# Altium schematic symbol library BAT24-02LS.SchLib: 1 symbol
Pins are listed as number, name and electrical type; pins without a type are passive.

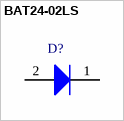
[diagram p0: symbol BAT24-02LS]

## BAT24-02LS
designator D?
Single Silicon Schottky Diode, 110 mA IF Max, TSSLP-2-1, Green; Manufacturer: Infineon; PartNumber: BAT24-02LS; CT (typ): 0.21 pF; Green: yes; Group: RF Mixer; IF (max): 110 mA; VF (typ): 0.23 V; VR (max): 4 V; DatasheetVersion: Jun-2011; PackageReference: TSSLP-2-1; PackageDescription: 2-Pin Thin Super Small Leadless Package, 0.6 x 1 mm Body; Supplier 1: Mouser; Supplier Part Number 1: N/A; Configuration: Single; Halogen-free: yes; Mounting Technology: Surface Mount; ComponentLink1Description: Manufacturer URL; ComponentLink1URL: http://www.infineon.com/; ComponentLink2Description: Datasheet; ComponentLink2URL: http://www.infineon.com/dgdl/bat24-02ls.pdf?folderId=db3a304314dca3890114ff6812070b44&fileId=db3a304314dca389011517e1bb1d0d5d&location=en.Products.RF.RF_Mixer___Detector_Schottky_Diodes.DATASHEET.bat24-02ls.pdf; ComponentLink3Description: Package Specification; ComponentLink3URL: http://www.infineon.com/dgdl/TSLP-2-1-Package_Overview.pdf?folderId=db3a30431936bc4b011956a23bb2377c&fileId=db3a30431936bc4b011956b3e8c13795
footprint INF-TSSLP-2-1_N (Chip2PinSM, 2-Leads, Body 1x0.6 mm, Pitch 0.65 mm, IPC Medium Density)
footprint INF-TSSLP-2-1_L (Chip2PinSM, 2-Leads, Body 1x0.6 mm, Pitch 0.65 mm, IPC High Density)
footprint INF-TSSLP-2-1_M (Chip2PinSM, 2-Leads, Body 1x0.6 mm, Pitch 0.65 mm, IPC Low Density)
pins: 1 K, 2 A